# Altium footprint library HSEC8-160-01-X-RA-BL.PcbLib: 1 footprints
Each footprint in its own frame and in the unit in brackets; x right, y up, seen from the top. Pads: shape width x height; smd on the part's side, far side on the other; paste and mask are expansions set on the pad; w line width, h text height; cw(c..) or ccw(c..) is an arc to the next point about the centre after c.
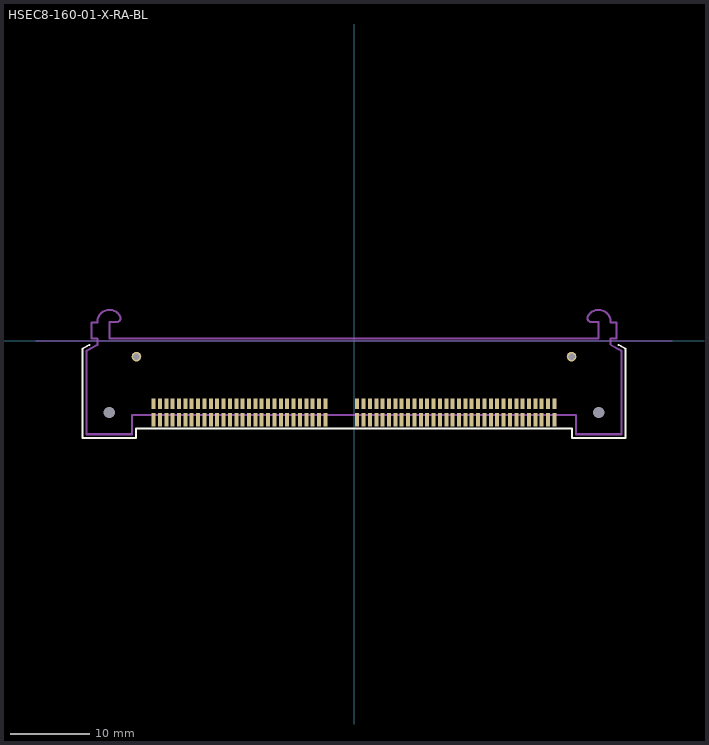
[diagram p0: the footprint, top view; thin cyan lines are the x and y axes]

## HSEC8-160-01-X-RA-BL [mm]
pads (124):
  rect 0.5x1.35 smd mask+0.05: 1(25.2,-7.925) 3(24.4,-7.925) 5(23.6,-7.925) 7(22.8,-7.925) 9(22,-7.925) 11(21.2,-7.925) 13(20.4,-7.925) 15(19.6,-7.925) 17(18.8,-7.925) 19(18,-7.925) 21(17.2,-7.925) 23(16.4,-7.925) 25(15.6,-7.925) 27(14.8,-7.925) 29(14,-7.925) 31(13.2,-7.925) 33(12.4,-7.925) 35(11.6,-7.925) 37(10.8,-7.925) 39(10,-7.925) 41(9.2,-7.925) 43(8.4,-7.925) 45(7.6,-7.925) 47(6.8,-7.925) 49(6,-7.925) 51(5.2,-7.925) 53(4.4,-7.925) 55(3.6,-7.925) 57(2.8,-7.925) 59(2,-7.925) 61(1.2,-7.925) 63(0.4,-7.925) 65(-3.6,-7.925) 67(-4.4,-7.925) 69(-5.2,-7.925) 71(-6,-7.925) 73(-6.8,-7.925) 75(-7.6,-7.925) 77(-8.4,-7.925) 79(-9.2,-7.925) 81(-10,-7.925) 83(-10.8,-7.925) 85(-11.6,-7.925) 87(-12.4,-7.925) 89(-13.2,-7.925) 91(-14,-7.925) 93(-14.8,-7.925) 95(-15.6,-7.925) 97(-16.4,-7.925) 99(-17.2,-7.925) 101(-18,-7.925) 103(-18.8,-7.925) 105(-19.6,-7.925) 107(-20.4,-7.925) 109(-21.2,-7.925) 111(-22,-7.925) 113(-22.8,-7.925) 115(-23.6,-7.925) 117(-24.4,-7.925) 119(-25.2,-7.925)
  rect 0.5x1.65 smd mask+0.05: 2(25.2,-9.925) 4(24.4,-9.925) 6(23.6,-9.925) 8(22.8,-9.925) 10(22,-9.925) 12(21.2,-9.925) 14(20.4,-9.925) 16(19.6,-9.925) 18(18.8,-9.925) 20(18,-9.925) 22(17.2,-9.925) 24(16.4,-9.925) 26(15.6,-9.925) 28(14.8,-9.925) 30(14,-9.925) 32(13.2,-9.925) 34(12.4,-9.925) 36(11.6,-9.925) 38(10.8,-9.925) 40(10,-9.925) 42(9.2,-9.925) 44(8.4,-9.925) 46(7.6,-9.925) 48(6.8,-9.925) 50(6,-9.925) 52(5.2,-9.925) 54(4.4,-9.925) 56(3.6,-9.925) 58(2.8,-9.925) 60(2,-9.925) 62(1.2,-9.925) 64(0.4,-9.925) 66(-3.6,-9.925) 68(-4.4,-9.925) 70(-5.2,-9.925) 72(-6,-9.925) 74(-6.8,-9.925) 76(-7.6,-9.925) 78(-8.4,-9.925) 80(-9.2,-9.925) 82(-10,-9.925) 84(-10.8,-9.925) 86(-11.6,-9.925) 88(-12.4,-9.925) 90(-13.2,-9.925) 92(-14,-9.925) 94(-14.8,-9.925) 96(-15.6,-9.925) 98(-16.4,-9.925) 100(-17.2,-9.925) 102(-18,-9.925) 104(-18.8,-9.925) 106(-19.6,-9.925) 108(-20.4,-9.925) 110(-21.2,-9.925) 112(-22,-9.925) 114(-22.8,-9.925) 116(-23.6,-9.925) 118(-24.4,-9.925) 120(-25.2,-9.925)
  round 1.21 hole 0.81 mask+0.075: 121(27.35,-2) 122(-27.35,-2)
  round 0 hole 1.4 unplated: 123(30.775,-9) 124(-30.775,-9)
Top Overlay:
  lines w0.254: -33.264,-0.5 -34.15,-1.011 -34.15,-12.25 -27.4,-12.25 -27.4,-11 27.4,-11 27.4,-12.25 34.15,-12.25 34.15,-1.011 33.264,-0.5
Mechanical 1:
  lines w0.254: -32.264,-0.5 -33.65,-1.3 -33.65,-11.75 -27.9,-11.75 -27.9,-9.35 27.9,-9.35 27.9,-11.75 28.3,-11.75 33.1,-11.75 33.65,-11.75 33.65,-8.25 33.65,-1.3 32.9,-0.867 32.25,-0.492 32.25,0.3 32.804,0.3 33.012,0.3 33.012,2.3 32.804,2.3 32.25,2.3 ccw(c30.747,2.394) 30.98,3.882 ; -32.25,-0.492 -32.25,0.3 -32.804,0.3 -33.012,0.3 -33.012,2.3 -32.804,2.3 -32.25,2.3 cw(c-30.747,2.394) -30.98,3.882 ; -30.979,3.882 cw(c-30.75,2.4) -30.75,3.9 cw(c-30.75,2.389) -29.405,3.077 cw(c-29.85,2.85) -29.85,2.35 -30.75,2.35 -30.75,0.3 -28.974,0.3 -28.61,0.3 -28.246,0.3 -27.9,0.3 -27.585,0.3 -27.115,0.3 26.931,0.3 27.115,0.3 27.585,0.3 28.35,0.3 30.2,0.3 30.7,0.3 30.75,0.3 30.75,2.35 29.85,2.35 cw(c29.85,2.85) 29.405,3.078 cw(c30.75,2.389) 30.75,3.9 cw(c30.75,2.4) 30.979,3.882
  text "J1" at 0.497,-2.965 h0.76
Mechanical 16:
  lines w0.1: -40,0 40,0